# EAGLE library part INA226 (library FansElectronics-Modul)
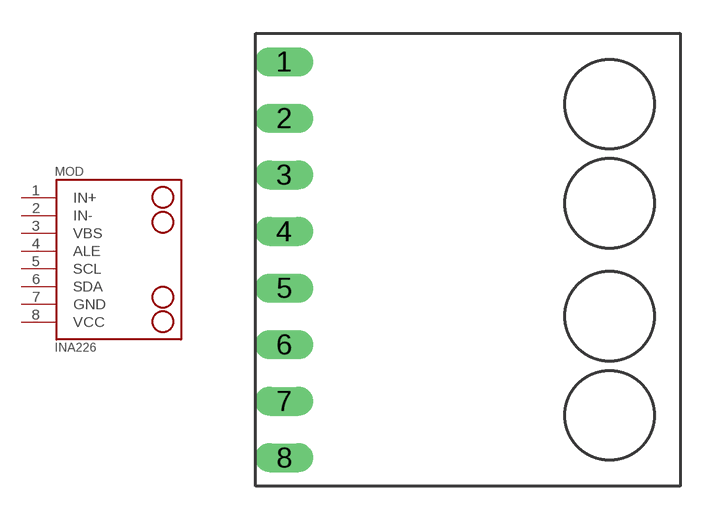
[diagram p38: symbol with the pads of INA226; footprint INA226]

Designator prefix MOD

## INA226  [INA226]
1  IN+  pwr
2  IN-  pwr
3  VBS  pwr
4  ALE
5  SCL
6  SDA
7  GND  pwr
8  VCC  pwr

## Footprint INA226 (pad centres in mm)
drill 0.8 long: 1 -5.08,7.62; 2 -5.08,5.08; 3 -5.08,2.54; 4 -5.08,0; 5 -5.08,-2.54; 6 -5.08,-5.08; 7 -5.08,-7.62; 8 -5.08,-10.16